# Altium schematic symbol library SCH - MCU - ATMEGA - MICROCHIP ATMEGA644PA-MN VQFN44.SchLib: 1 symbol
Pins are listed as number, name and electrical type; pins without a type are passive.

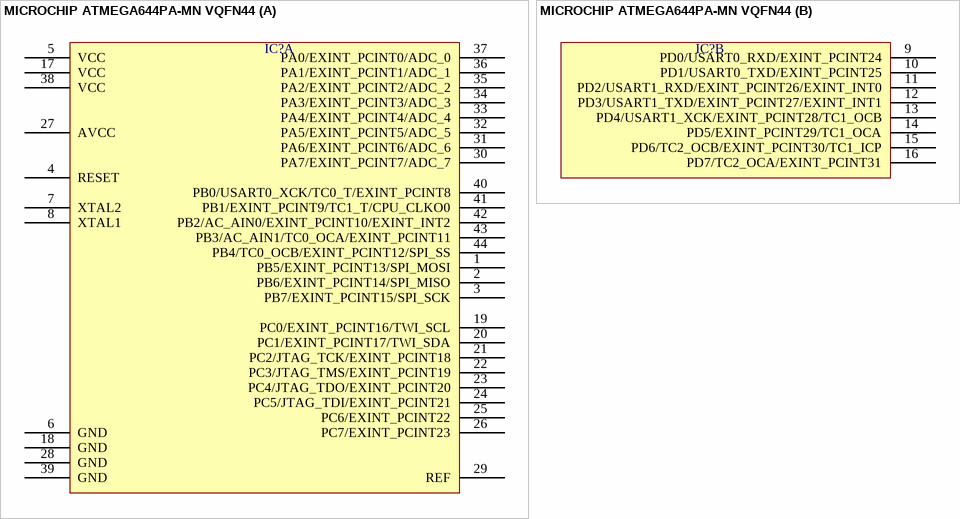
[diagram p0: symbol MICROCHIP ATMEGA644PA-MN VQFN44]

## MICROCHIP ATMEGA644PA-MN VQFN44
designator IC?  (value not drawn)
part A pins: 1 PB5/EXINT_PCINT13/SPI_MOSI, 2 PB6/EXINT_PCINT14/SPI_MISO, 3 PB7/EXINT_PCINT15/SPI_SCK, 4 RESET, 5 VCC, 6 GND, 7 XTAL2, 8 XTAL1, 17 VCC, 18 GND, 19 PC0/EXINT_PCINT16/TWI_SCL, 20 PC1/EXINT_PCINT17/TWI_SDA, 21 PC2/JTAG_TCK/EXINT_PCINT18, 22 PC3/JTAG_TMS/EXINT_PCINT19, 23 PC4/JTAG_TDO/EXINT_PCINT20, 24 PC5/JTAG_TDI/EXINT_PCINT21, 25 PC6/EXINT_PCINT22, 26 PC7/EXINT_PCINT23, 27 AVCC, 28 GND, 29 REF, 30 PA7/EXINT_PCINT7/ADC_7, 31 PA6/EXINT_PCINT6/ADC_6, 32 PA5/EXINT_PCINT5/ADC_5, 33 PA4/EXINT_PCINT4/ADC_4, 34 PA3/EXINT_PCINT3/ADC_3, 35 PA2/EXINT_PCINT2/ADC_2, 36 PA1/EXINT_PCINT1/ADC_1, 37 PA0/EXINT_PCINT0/ADC_0, 38 VCC, 39 GND, 40 PB0/USART0_XCK/TC0_T/EXINT_PCINT8, 41 PB1/EXINT_PCINT9/TC1_T/CPU_CLKO0, 42 PB2/AC_AIN0/EXINT_PCINT10/EXINT_INT2, 43 PB3/AC_AIN1/TC0_OCA/EXINT_PCINT11, 44 PB4/TC0_OCB/EXINT_PCINT12/SPI_SS
part B pins: 9 PD0/USART0_RXD/EXINT_PCINT24, 10 PD1/USART0_TXD/EXINT_PCINT25, 11 PD2/USART1_RXD/EXINT_PCINT26/EXINT_INT0, 12 PD3/USART1_TXD/EXINT_PCINT27/EXINT_INT1, 13 PD4/USART1_XCK/EXINT_PCINT28/TC1_OCB, 14 PD5/EXINT_PCINT29/TC1_OCA, 15 PD6/TC2_OCB/EXINT_PCINT30/TC1_ICP, 16 PD7/TC2_OCA/EXINT_PCINT31